# Altium footprint library MUX - 8..1 CD4051BMG4.PcbLib: 1 footprints
Each footprint in its own frame and in the unit in brackets; x right, y up, seen from the top. Pads: shape width x height; smd on the part's side, far side on the other; paste and mask are expansions set on the pad; w line width, h text height; cw(c..) or ccw(c..) is an arc to the next point about the centre after c.
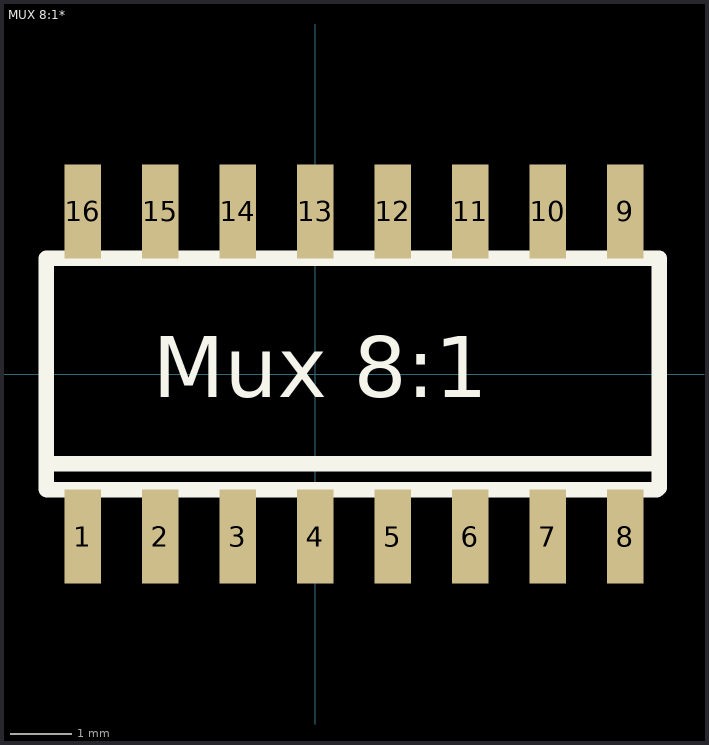
[diagram p0: the footprint, top view; thin cyan lines are the x and y axes]

## MUX 8:1* [mm]
height 1.75
pads (16):
  rect 0.6x1.54 smd: 1(-3.81,-2.667) 2(-2.54,-2.667) 3(-1.27,-2.667) 4(0,-2.667) 5(1.27,-2.667) 6(2.54,-2.667) 7(3.81,-2.667) 8(5.08,-2.667) 9(5.08,2.667) 10(3.81,2.667) 11(2.54,2.667) 12(1.27,2.667) 13(0,2.667) 14(-1.27,2.667) 15(-2.54,2.667) 16(-3.81,2.667)
Top Overlay:
  lines w0.254: -4.41,-1.47 5.635,-1.47 ; -4.41,-1.89 -4.4,-1.9 5.6,-1.9 5.635,-1.865 5.635,1.9 -4.41,1.9 -4.41,-1.89
  text "Mux 8:1" at -2.667,-0.381 h1